# EAGLE library part TEXAS_ADS1015 (library airu-board)
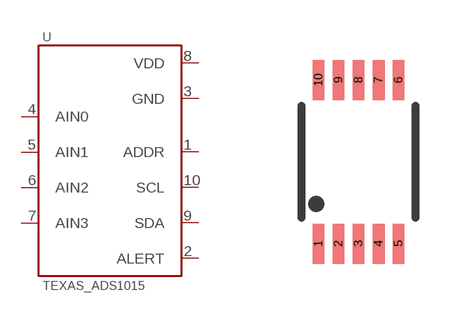
[diagram p7: symbol with the pads of TEXAS_S-PDSO-G10; footprint TEXAS_S-PDSO-G10]

Designator prefix -

## TEXAS_ADS1015  [TEXAS_S-PDSO-G10]
1  ADDR  in
2  ALERT
3  GND  pwr
4  AIN0  in
5  AIN1  in
6  AIN2  in
7  AIN3  in
8  VDD  pwr
9  SDA
10  SCL

## Footprint TEXAS_S-PDSO-G10 (pad centres in mm)
smd 0.3 x 1: 1 -1,-2.05; 2 -0.5,-2.05; 3 0,-2.05; 4 0.5,-2.05; 5 1,-2.05; 6 1,2.05; 7 0.5,2.05; 8 0,2.05; 9 -0.5,2.05; 10 -1,2.05